# EAGLE library part LMJ1598824110DT39 (library con-amphenol-rj45)
RJ45 socket with integrated transformer
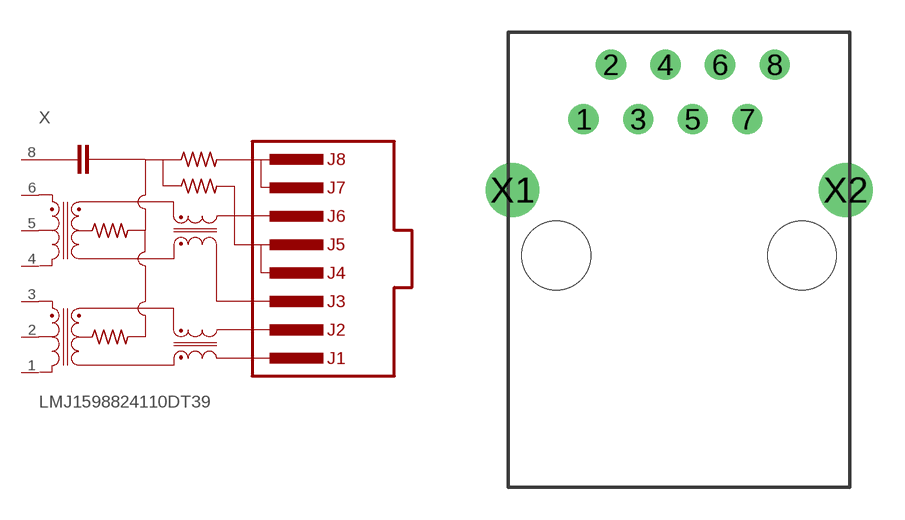
[diagram p0: symbol with the pads of 8PIN; footprint 8PIN]

Designator prefix X

## LMJ1598824110DT39  [8PIN]
1  P1  pas
2  P2  pas
3  P3  pas
4  P4  pas
5  P5  pas
6  P6  pas
8  P8  pas

## Footprint 8PIN (pad centres in mm)
Based on Rev. B of Amphenol LMJ159882X110DT39 drawing
drill 0.9: 1 -4.445,6.35; 2 -3.175,8.89; 3 -1.905,6.35; 4 -0.635,8.89; 5 0.635,6.35; 6 1.905,8.89; 7 3.175,6.35; 8 4.445,8.89
drill 1.6 pad 2.5: X1 -7.75,3.05; X2 7.75,3.05
hole 3.2 at -5.715,0
hole 3.2 at 5.715,0